# Altium schematic symbol library cat.SchLib: 117 symbols (part 2 of 4)
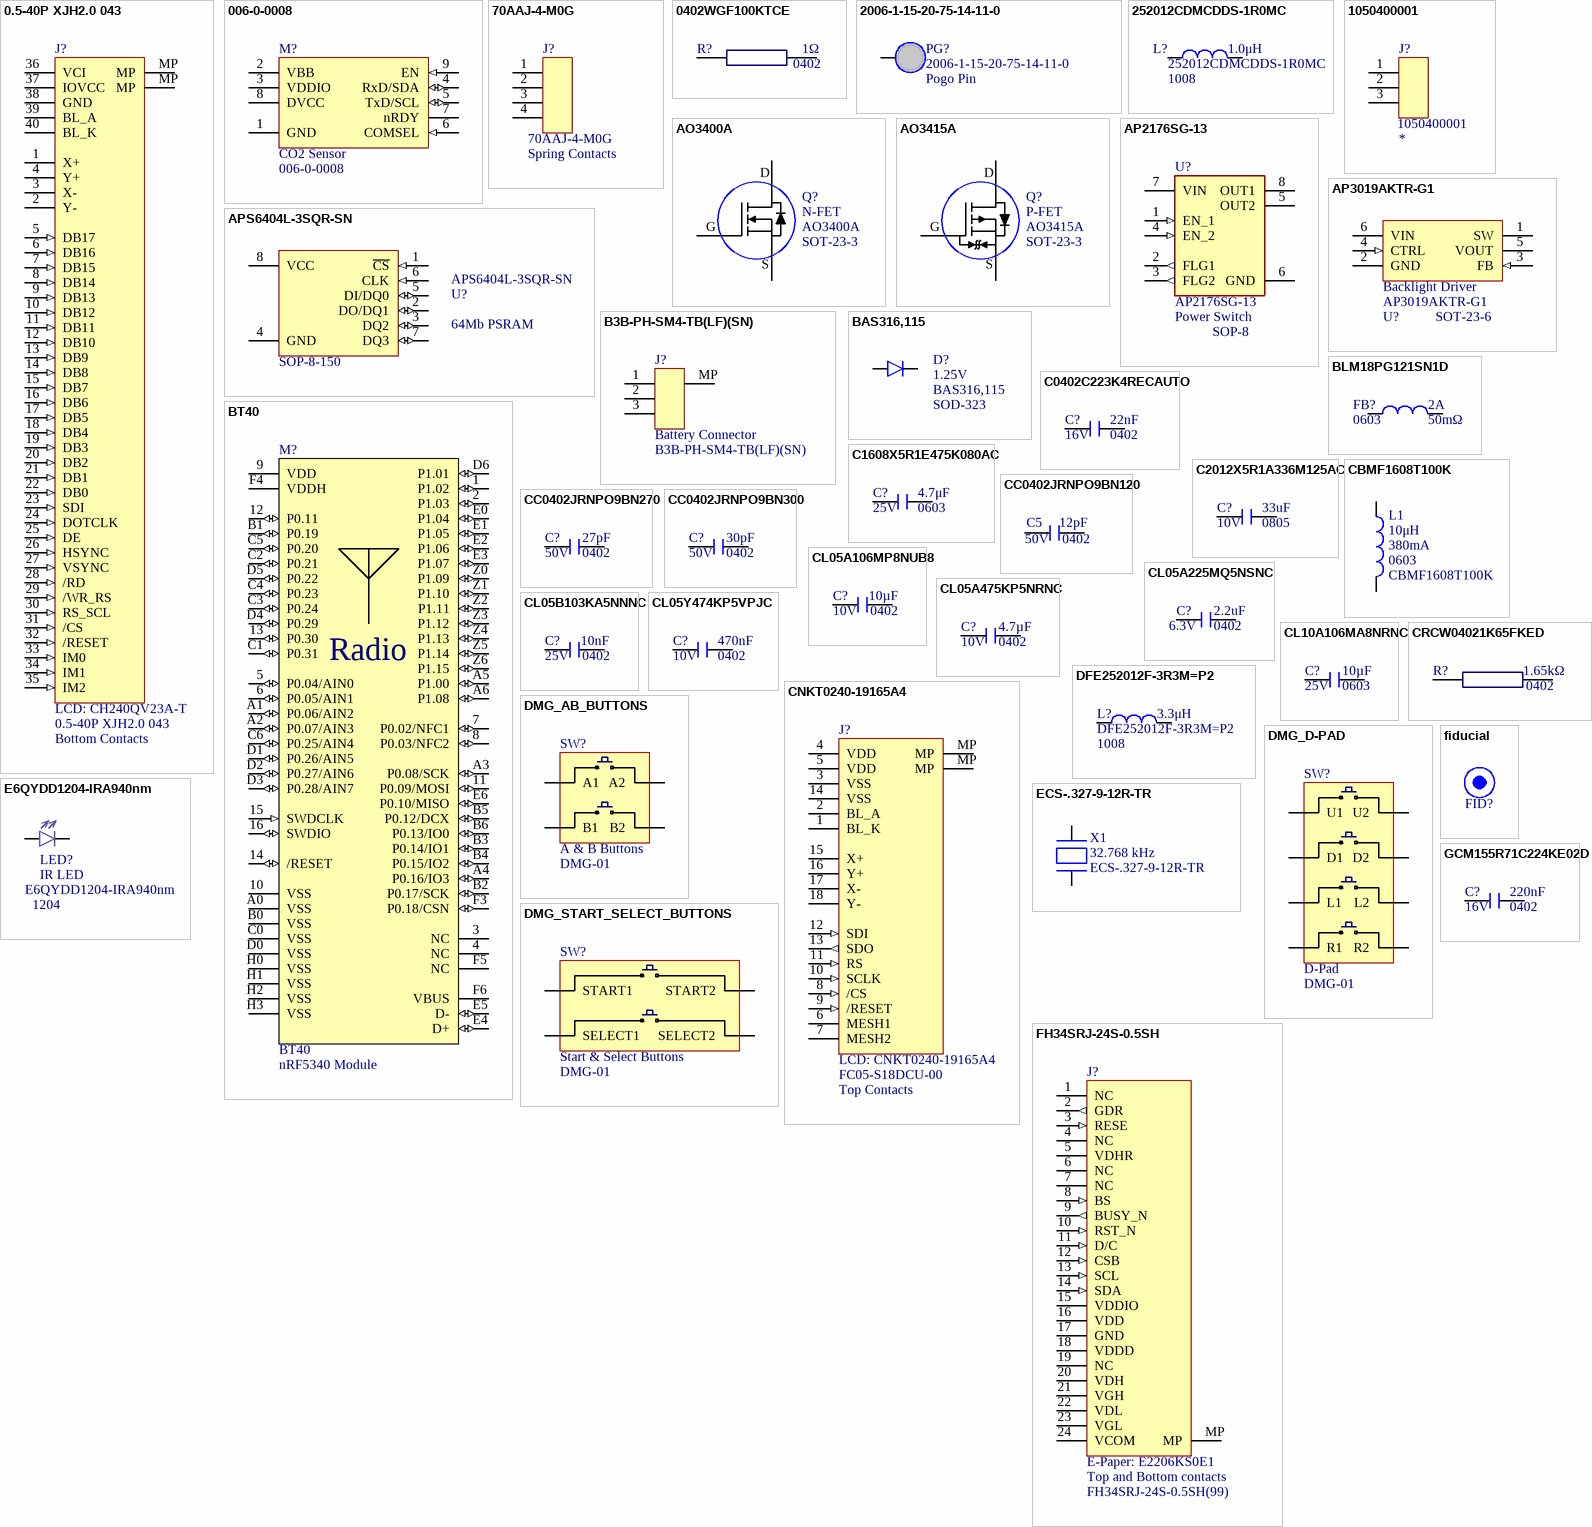
[diagram p3: symbols 0.5-40P XJH2.0 043 to GCM155R71C224KE02D]

## CRCW04021K65FKED
designator R?  value 1.65kΩ  Case/Package: 0402  (hidden comment: CRCW04021K65FKED)
1.65kΩ, 0402 Chip resistor; Manufacturer: Vishay; house_part_number: R-1.65k-0402-1%-001; Tolerance: 1%; Temperature Coefficient: 100ppm/°C; Max Power Dissipation: 63mW; Voltage Rating: 50V; Supplier 1: Mouser; Supplier Part Number 1: 71-CRCW0402-1.65K-E3; Manufacturer Part Number: CRCW04021K65FKED; RoHS: Yes; Category: Chip SMD Resistors; Stock: 17546; Pricing: 1=0.1, 10=0.019, 50=0.019, 100=0.009, 1000=0.006, 10000=0.004 (USD); Weight: 2.3E-05oz; Case Code (Metric): 1005; Case Code (Imperial): 0402; Contact Plating: Tin; Min Operating Temperature: -55°C; Max Operating Temperature: 155°C; Package Quantity: 10; Packaging: Tape and Reel; Number of Terminations: 2; Features: Automotive AEC-Q200; Series: CRCW; Power Rating: 63mW; Resistor Type: Thick Film; Termination: SMD/SMT; Voltage Rating (DC): 50V; Resistance Tolerance: 1%; Length: 0.039inch; Width: 0.02inch; Height: 0.016inch; Radiation Hardening: No; RoHS Compliant: Yes; Lead Free: Lead Free; Reach SVHC Compliant: Unknown; ComponentLink1URL: https://datasheet.ciiva.com/22871/70201119-22871702.pdf?src-supplier=Allied+Electronics; ComponentLink1Description: https://datasheet.ciiva.com/22871/70201119-22871702.pdf?src-supplier=Allied+Electronics; ComponentLink2URL: https://datasheet.ciiva.com/22700/1697337-22700683.pdf?src-supplier=Element14; ComponentLink2Description: https://datasheet.ciiva.com/22700/1697337-22700683.pdf?src-supplier=Element14; ComponentLink3URL: https://datasheet.ciiva.com/7670/1697337-7670157.pdf?src-supplier=Element14; ComponentLink3Description: https://datasheet.ciiva.com/7670/1697337-7670157.pdf?src-supplier=Element14; ComponentLink4URL: https://datasheet.ciiva.com/7670/1697337-7670158.pdf?src-supplier=Element14; ComponentLink4Description: https://datasheet.ciiva.com/7670/1697337-7670158.pdf?src-supplier=Element14; ComponentLink5URL: https://datasheet.ciiva.com/2464/dcrcwe3-2464480.pdf?src-supplier=Digikey; ComponentLink5Description: https://datasheet.ciiva.com/2464/dcrcwe3-2464480.pdf?src-supplier=Digikey; ComponentLink6URL: https://datasheet.ciiva.com/2464/dcrcwe3-2464481.pdf?src-supplier=Digikey; ComponentLink6Description: https://datasheet.ciiva.com/2464/dcrcwe3-2464481.pdf?src-supplier=Digikey; ComponentLink7URL: https://datasheet.ciiva.com/2464/dcrcwe3-2464482.pdf?src-supplier=Digikey; ComponentLink7Description: https://datasheet.ciiva.com/2464/dcrcwe3-2464482.pdf?src-supplier=Digikey; ComponentLink8URL: https://datasheet.ciiva.com/7743/125364-7743496.pdf?src-supplier=Element14; ComponentLink8Description: https://datasheet.ciiva.com/7743/125364-7743496.pdf?src-supplier=Element14
footprint 0402_resistor (Chip Resistor, 2-Leads, Body 1.00x0.50mm, IPC Medium Density)
pins: 1, 2

## DFE252012F-3R3M=P2
designator L?  value 3.3μH  Case Code (Imperial): 1008  (hidden comment: DFE252012F-3R3M=P2)
3.3 μH, 1.8 A, 1008 Inductor; Manufacturer: Murata; house_part_number: L-3.3uH-1008-002; Core Material: Ferrite; Current Rating: 1.8A; Saturation Current: 2.8A; Shielding: Shielded; DC Resistance (DCR): 135mR; Test Frequency: 1MHz; Tolerance: 20%; Supplier Part Number 1: DFE252012F-3R3M=P2; RoHS: Yes; Category: Fixed Inductors; Stock: 8; Pricing: 1=0.1101 (USD); Mounting Technology: Surface Mount; Case/Package: 1008; Case Code (Metric): 2520; Min Operating Temperature: -40°C; Max Operating Temperature: 125°C; Packaging: Cut Tape; Series: DFE252012F; Length: 0.098inch; Width: 0.079inch; Height - Seated (Max): 0.047inch; RoHS Compliant: Yes; ComponentLink1URL: http://www.murata.com/~/media/webrenewal/products/inductor/chip/tokoproducts/wirewoundmetalalloychiptype/m_dfe252012f.ashx?src-supplier=Digikey; ComponentLink1Description: http://www.murata.com/~/media/webrenewal/products/inductor/chip/tokoproducts/wirewoundmetalalloychiptype/m_dfe252012f.ashx?src-supplier=Digikey; ComponentLink2URL: https://www.murata.com/~/media/webrenewal/products/inductor/chip/tokoproducts/wirewoundmetalalloychiptype/m_dfe252012f.ashx?src-supplier=Digikey; ComponentLink2Description: https://www.murata.com/~/media/webrenewal/products/inductor/chip/tokoproducts/wirewoundmetalalloychiptype/m_dfe252012f.ashx?src-supplier=Digikey; ComponentLink3URL: https://datasheet.octopart.com/DFE252012F-3R3M%3DP2-Murata-datasheet-150009032.pdf?src-supplier=Arrow.cn; ComponentLink3Description: https://datasheet.octopart.com/DFE252012F-3R3M%3DP2-Murata-datasheet-150009032.pdf?src-supplier=Arrow.cn; Supplier 1: Arrow Electronics; Manufacturer Part Number: DFE252012F-3R3M=P2
footprint INDC2520X12N (Chip Inductor, 2-Leads, Body 2.50x2.00mm, IPC Medium Density)
pins: 1, 2

## DMG_AB_BUTTONS
designator SW?, comment A & B Buttons  Console: DMG-01
A & B buttons for gameboy DMG
footprint DMG_AB_BUTTONS (A and B buttons for the gameboy GMG)
pins: A1, A2, B1, B2

## DMG_D-PAD
designator SW?, comment D-Pad  Console: DMG-01
D-Pad for gameboy DMG
footprint DMG_D-pad (D-pad for gameboy DMG buttons)
pins: D1, D2, L1, L2, R1, R2, U1, U2

## DMG_START_SELECT_BUTTONS
designator SW?, comment Start & Select Buttons  Console: DMG-01
Start and Select buttons for gameboy DMG
footprint DMG_START_SELECT_BUTTONS (Start and Select buttons for the gameboy DMG)
pins: SELECT1, SELECT2, START1, START2

## E6QYDD1204-IRA940nm
designator LED?, comment IR LED  Case/Package: 1204  Manufacturer Part Number: E6QYDD1204-IRA940nm
Infrared LED, 940nm, 1204, side view; Manufacturer: EKINGLUX; Supplier 1: LCSC; Supplier Part Number 1: C396649
footprint LED1204_SIDE
pins: A, A, K, K

## ECS-.327-9-12R-TR
designator X1  Frequency: 32.768 kHz  (hidden comment: ECS-.327-9-12R-TR)
32.768 kHz 9 pF crystal; Manufacturer: ECS International; Supplier 1: Digi-Key; RoHS: No; Stock 1: 5487; Pricing 1: 1=0.74000, 10=0.61300, 50=0.55200, 100=0.49060, 500=0.46608, 1000=0.39248 (USD); Supplier Part Number 1: XC2745CT-ND; house_part_number: ECS-.327-9-12R; Manufacturer Part Number: ECS-.327-9-12R-TR
footprint ECX-12R (2.0 × 1.2 × 0.6 mm Crystal)
pins: 1, 2

## FH34SRJ-24S-0.5SH
designator J?, comment E-Paper: E2206KS0E1  contact_side: Top and Bottom contacts  Manufacturer Part Number: FH34SRJ-24S-0.5SH(99)
24-Pin FPC Connector, 0.5mm pitch for E2206KS0E1 E-Paper display; Manufacturer: Hirose; Actuator Material: Nylon,Polyamide; Actuator Color: Black; Number of Positions: 24; Voltage Rating: 50V; Mating Cycles: 20; Supplier: Future Electronics; Supplier Part Number: 2094306; RoHS: Yes; Category: FFC / FPC; Stock: 500; Pricing: 500=1.61, 1000=1.59, 1500=1.56 (USD); Mounting Technology: Surface Mount; Pins: 24; Contact Material: Bronze; Contact Plating: Gold; Housing Material: Polymer; Housing Color: Grey; Min Operating Temperature: -55°C; Max Operating Temperature: 85°C; Packaging: Cut Tape; Termination: Solder; Series: FH34SRJ; Flammability Rating: UL94 V-0; RoHS Compliant: Yes; ComponentLink1URL: https://www.hirose.com/product/en/download_file/key_name/FH34SRJ/category/Catalog/doc_file_id/31646/?file_category_id=4&item_id=27&is_series=1&src-supplier=Digikey; ComponentLink1Description: https://www.hirose.com/product/en/download_file/key_name/FH34SRJ/category/Catalog/doc_file_id/31646/?file_category_id=4&item_id=27&is_series=1&src-supplier=Digikey; Supplier 1: Digikey; Supplier Part Number 1: H124725CT-ND
footprint E2206KS0E1
pins: 1 NC "Not connected", 2 GDR (out) "N-channel MOSFET gate drive", 3 RESE (in) "Current sense input", 4 NC "Not connected", 5 VDHR (power) "Positive source driving voltage. Must be decoupled to GND.", 6 NC "Not connected", 7 NC "Not connected", 8 BS (in) "Interface select. Connect to GND.", 9 BUSY_N (out) "Busy, active low. Module must not be talked to while asserted.", 10 RST_N (in) "Reset, active low", 11 D/C (in) "Data/Command", 12 CSB (in) "SPI nCS", 13 SCL (in) "SPI SCK", 14 SDA (in) "SPI MOSI", 15 VDDIO (power) "Logic supply rail", 16 VDD (power) "Main supply rail", 17 GND (power) "Ground", 18 VDDD (power) "Internal voltage regulator output. Must be decoupled to GND.", 19 NC "Not connected", 20 VDH (power) "Positive source driving voltage. Must be decoupled to GND.", 21 VGH (power) "Positive gate driving voltage. Must be decoupled to GND.", 22 VDL (power) "Negative source driving voltage. Must be decoupled to GND.", 23 VGL (power) "Negative gate driving voltage. Must be decoupled to GND.", 24 VCOM (power) "VCOM driving voltage. Must be decoupled to GND.", MP "Mounting Pad"

## fiducial
designator FID?  (value not drawn)  (no BOM)
0.5mm diameter round fiducial; house_part_number: Disc-0.5
footprint fiducial-0.5

## GCM155R71C224KE02D
designator C?  value 220nF  Voltage Rating: 16V  Case/Package: 0402  (hidden comment: GCM155R71C224KE02D)
220 nF, 16 V, X7R, 0402 Chip capacitor; Manufacturer: Murata; Material: Ceramic; Tolerance: 10%; Supplier: Future Electronics; Supplier Part Number: 7050660; Manufacturer Part Number: GCM155R71C224KE02D; RoHS: Yes; Category: Ceramic Capacitors; Stock: 80000; Pricing: 10000=0.0082, 30000=0.0079, 50000=0.0078, 150000=0.0076, 250000=0.0074 (USD); Mounting Technology: Surface Mount; Case Code (Metric): 1005; Case Code (Imperial): 0402; Weight: 0.000212oz; Min Operating Temperature: -55°C; Max Operating Temperature: 125°C; Packaging: Tape and Reel; Dielectric: X7R; Termination: SMD/SMT; Voltage Rating (DC): 16V; Package Quantity: 10000; Series: GCM; Length: 0.039inch; Width: 0.02inch; Height: 0.5mm; Thickness: 0.022inch; Ratings: AEC-Q200; Lead Free: Lead Free; RoHS Compliant: Yes; ComponentLink1URL: http://www.mouser.com/ds/2/281/c03e-806517.pdf?src-supplier=Mouser; ComponentLink1Description: http://www.mouser.com/ds/2/281/c03e-806517.pdf?src-supplier=Mouser; ComponentLink2URL: http://search.murata.co.jp/Ceramy/image/img/A01X/partnumbering_e_02.pdf?src-supplier=Digikey; ComponentLink2Description: http://search.murata.co.jp/Ceramy/image/img/A01X/partnumbering_e_02.pdf?src-supplier=Digikey; ComponentLink3URL: https://datasheet.octopart.com/GCM155R71C224KE02D-Murata-datasheet-32042419.pdf?src-supplier=Future+Electronics; ComponentLink3Description: https://datasheet.octopart.com/GCM155R71C224KE02D-Murata-datasheet-32042419.pdf?src-supplier=Future+Electronics; ComponentLink4URL: https://datasheet.octopart.com/GCM155R71C224KE02D-Murata-datasheet-149522429.pdf?src-supplier=Newark; ComponentLink4Description: https://datasheet.octopart.com/GCM155R71C224KE02D-Murata-datasheet-149522429.pdf?src-supplier=Newark; ComponentLink5URL: https://datasheet.octopart.com/GCM155R71C224KE02D-Murata-datasheet-12511495.pdf?src-supplier=TME; ComponentLink5Description: https://datasheet.octopart.com/GCM155R71C224KE02D-Murata-datasheet-12511495.pdf?src-supplier=TME
footprint 0402_capacitor (0402 chip capacitor)
pins: 1, 2

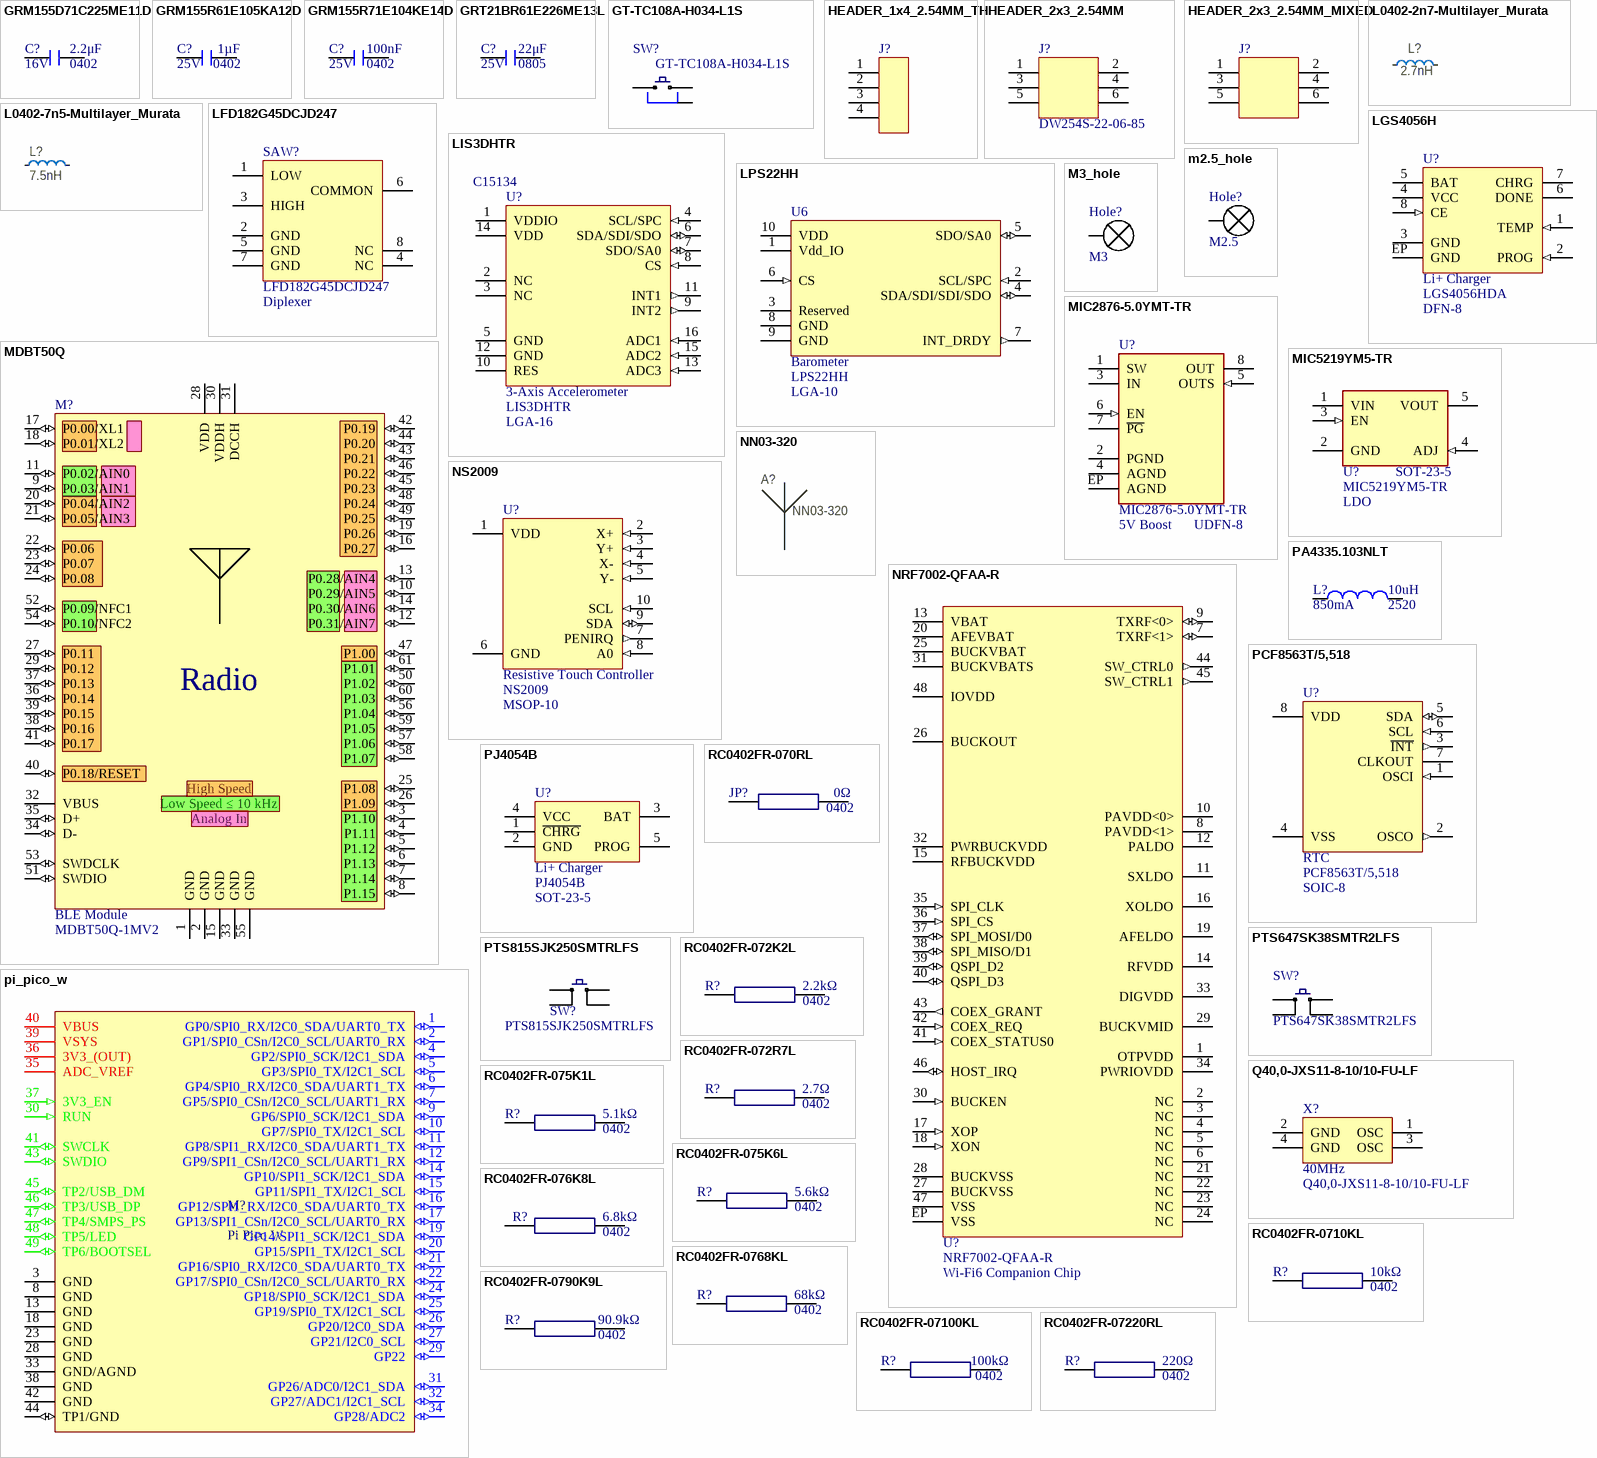
[diagram p1: symbols GRM155D71C225ME11D to RC0402FR-07220RL]

## GRM155D71C225ME11D
designator C?  value 2.2μF  Voltage Rating: 16V  Case/Package: 0402  (hidden comment: GRM155D71C225ME11D)
2.2 µF, 16 V, X7T, 0402 Chip capacitor; Manufacturer: Murata; Material: Ceramic; Tolerance: 20%; Supplier: Future Electronics; Supplier Part Number: 9135167; Manufacturer Part Number: GRM155D71C225ME11D; RoHS: Yes; Category: Ceramic Capacitors; Stock: 10000; Pricing: 10000=0.0274, 20000=0.027, 30000=0.0267, 40000=0.0266, 50000=0.026 (USD); Min Operating Temperature: -55°C; Max Operating Temperature: 125°C; Dielectric: X7T; Voltage Rating (DC): 16V; Length: 1mm; Width: 500um; Height: 650um; Thickness: 500um; RoHS Compliant: Yes; ComponentLink1URL: https://datasheet.octopart.com/GRM155D71C225ME11D-Murata-datasheet-165579666.pdf?src-supplier=TME; ComponentLink1Description: https://datasheet.octopart.com/GRM155D71C225ME11D-Murata-datasheet-165579666.pdf?src-supplier=TME
footprint 0402_capacitor (0402 chip capacitor)
pins: 1, 2

## GRM155R61E105KA12D
designator C?  Size Code: 0402  Capacitance: 1µF  Voltage: 25V  (hidden comment: GRM155R61E105KA12D)
1 µF, 25 V, X5R, 0402 Chip capacitor; Manufacturer: Murata; house_part_number: C-1uF-0402-002; Dielectric Material: Ceramic; Multilayer: Yes; Negative Tolerance: 10%; Supplier 1: Digi-Key; Supplier Part Number 1: 490-10017-1-ND; RoHS: Yes; Category: Ceramic Capacitors; Stock 1: 145965; Pricing 1: 1=0.11000, 10=0.08300, 50=0.04560, 100=0.03720, 500=0.02656, 1000=0.02087, 2500=0.01898, 5000=0.01746 (USD); Mount: Surface Mount; Number of Pins: 2; Package Shape: Rectangular; Terminal Finish: Nickel; Min Operating Temperature: -55°C; Max Operating Temperature: 85°C; JESD-609 Code: e3; Capacitor Type: Ceramic; Package Style: SMTMeter; Packaging: Tape and Reel; Positive Tolerance: 10%; Temperature Characteristics Code: X5R; Termination: Wraparound; Length: 1mm; Width: 0.5mm; Height: 0.5mm; REACH SVHC: Yes; RoHS Compliant: Yes; ComponentLink1URL: https://datasheet.ciiva.com:443/pdfs/VipMasterIC/IC/MURE/MURE-S-A0004362469/MURE-S-A0004364524-1.pdf?src-supplier=IHS+Markit; ComponentLink1Description: https://datasheet.ciiva.com:443/pdfs/VipMasterIC/IC/MURE/MURE-S-A0004362469/MURE-S-A0004364524-1.pdf?src-supplier=IHS+Markit; ComponentLink2URL: https://datasheet.ciiva.com/7719/1666664-7719006.pdf?src-supplier=Element14; ComponentLink2Description: https://datasheet.ciiva.com/7719/1666664-7719006.pdf?src-supplier=Element14; ComponentLink3URL: https://datasheet.ciiva.com/22732/1666664-22732122.pdf?src-supplier=Element14; ComponentLink3Description: https://datasheet.ciiva.com/22732/1666664-22732122.pdf?src-supplier=Element14; Manufacturer Part Number: GRM155R61E105KA12D
footprint 0402_capacitor (0402 chip capacitor)
pins: 1, 2

## GRM155R71E104KE14D
designator C?  Case Code (Imperial): 0402  Voltage: 25V  Capacitance: 100nF  (hidden comment: GRM155R71E104KE14D)
100 nF, 25 V, X7R, 0402 Chip capacitor; Manufacturer: Murata; house_part_number: C-100nF-0402-002; Dielectric Material: Ceramic; Tolerance: 10%; Supplier 1: Digi-Key; Supplier Part Number 1: 490-10698-1-ND; RoHS: Yes; Category: Ceramic Capacitors; Pricing 1: 1=0.10000, 10=0.02700, 50=0.01460, 100=0.01190, 500=0.00848, 1000=0.00666, 2500=0.00605, 5000=0.00557 (USD); Mount: Surface Mount; Case/Package: 0402; Case Code (Metric): 1005; Weight: 0.000212oz; Min Operating Temperature: -55°C; Max Operating Temperature: 125°C; Packaging: Tape and Reel; Voltage Rating: 25V; Dielectric: X7R; Termination: SMD/SMT; Resistor Type: Ceramic; Voltage Rating (DC): 25V; Package Quantity: 10000; Length: 1mm; Width: 0.02inch; Height: 0.5mm; Thickness: 0.022inch; Depth: 0.5mm; REACH SVHC: Unknown; Lead Free: Lead Free; RoHS Compliant: Yes; ComponentLink1URL: http://www.farnell.com/datasheets/1872206.pdf?src-supplier=Farnell; ComponentLink1Description: http://www.farnell.com/datasheets/1872206.pdf?src-supplier=Farnell; ComponentLink2URL: http://components.arrow.com/part/dataview/0323_06361249?src-supplier=Arrow+Europe; ComponentLink2Description: http://components.arrow.com/part/dataview/0323_06361249?src-supplier=Arrow+Europe; ComponentLink3URL: http://uk.rs-online.com/webdocs/144c/0900766b8144c113.pdf?src-supplier=RSComponents; ComponentLink3Description: http://uk.rs-online.com/webdocs/144c/0900766b8144c113.pdf?src-supplier=RSComponents; ComponentLink4URL: http://www.farnell.com/datasheets/2048008.pdf?src-supplier=Farnell; ComponentLink4Description: http://www.farnell.com/datasheets/2048008.pdf?src-supplier=Farnell; ComponentLink5URL: http://www.mouser.com/ds/2/281/c02e-2905.pdf?src-supplier=Mouser; ComponentLink5Description: http://www.mouser.com/ds/2/281/c02e-2905.pdf?src-supplier=Mouser; ComponentLink6URL: http://www.farnell.com/datasheets/2048008.pdf?src-supplier=Newark; ComponentLink6Description: http://www.farnell.com/datasheets/2048008.pdf?src-supplier=Newark; ComponentLink7URL: https://search.murata.co.jp/Ceramy/image/img/A01X/G101/ENG/GRM155R71E104KE14-01.pdf?src-supplier=Digi-Key; ComponentLink7Description: https://search.murata.co.jp/Ceramy/image/img/A01X/G101/ENG/GRM155R71E104KE14-01.pdf?src-supplier=Digi-Key; ComponentLink8URL: http://www.farnell.com/datasheets/2048008.pdf?src-supplier=Element14; ComponentLink8Description: http://www.farnell.com/datasheets/2048008.pdf?src-supplier=Element14; ComponentLink9URL: http://psearch.en.murata.com/capacitor/product/GRM155R71E104KE14%23.pdf?src-supplier=Avnet; ComponentLink9Description: http://psearch.en.murata.com/capacitor/product/GRM155R71E104KE14%23.pdf?src-supplier=Avnet; Manufacturer Part Number: GRM155R71E104KE14D
footprint 0402_capacitor (0402 chip capacitor)
pins: 1, 2

## GRT21BR61E226ME13L
designator C?  value 22μF  Rated DC Voltage (URdc): 25V  Case/Package: 0805  (hidden comment: *)
22 μF, 25 V, X5R, 0805 Chip capacitor; Manufacturer: Murata; Manufacturer Part Number: GRT21BR61E226ME13L; Dielectric Material: Ceramic; Multilayer: Yes; Tolerance  (fill in as +-): 20%; Reference Standard: AEC-Q200; Supplier 1: Digi-Key; RoHS: Yes; Category: Ceramic Capacitors; Stock 1: 1983731; Pricing 1: 1=0.48, 10=0.338, 50=0.2558, 100=0.2228, 500=0.16508, 1000=0.14031 (USD); Mounting Technology: Surface Mount; Pins: 2; Package Shape: Rectangular; Terminal Finish: Nickel; Min Operating Temperature: -55°C; Max Operating Temperature: 85°C; JESD-609 Code: e3; Capacitor Type: Ceramic; Packaging: Tape and Reel; Tolerance (fill in as +-): 20%; Temperature Characteristics Code: X5R; Termination: Wraparound; Reach SVHC Compliant: Yes; RoHS Compliant: Yes; ComponentLink1URL: https://datasheet.ciiva.com:443/pdfs/VipMasterIC/IC/MURE/MURE-S-A0004410517/MURE-S-A0004413512-1.pdf?src-supplier=IHS+Markit; ComponentLink1Description: https://datasheet.ciiva.com:443/pdfs/VipMasterIC/IC/MURE/MURE-S-A0004410517/MURE-S-A0004413512-1.pdf?src-supplier=IHS+Markit; ComponentLink2URL: http://search.murata.co.jp/Ceramy/image/img/A01X/G101/ENG/GRT21BR61E226ME13-01.pdf?src-supplier=Digi-Key; ComponentLink2Description: http://search.murata.co.jp/Ceramy/image/img/A01X/G101/ENG/GRT21BR61E226ME13-01.pdf?src-supplier=Digi-Key; Supplier Part Number 1: 490-12389-1-ND
footprint 0805_capacitor (Chip Capacitor, 2-Leads, Body 2.00x1.25mm, IPC Medium Density)
pins: 1, 2

## GT-TC108A-H034-L1S
designator SW?
GT-TC108A-H034-L1S; Manufacturer: G-Switch; Supplier: LCSC; Supplier Part Number: C22396279; RoHS: No; Stock: 21128; Pricing: 5=0.1075, 50=0.0865, 150=0.0761, 500=0.0682, 2000=0.0619, 4000=0.0587 (USD); Manufacturer Part Number: GT-TC108A-H034-L1S
footprint SKRTLA
pins: A, B, MP (power)

## HEADER_1x4_2.54MM_TH
designator J?  (value not drawn)
footprint HEADER_1X4P_2.54MM_TH
pins: 1, 2, 3, 4

## HEADER_2x3_2.54MM
designator J?  Manufacturer Part Number: DW254S-22-06-85  (hidden comment: HEADER_2x3_2.54MM)
0.1" socket, 3x2, SMD; house_part_number: DW254S-22-06-85
footprint HEADER_2X3P_2.54MM
pins: 1, 2, 3, 4, 5, 6

## HEADER_2x3_2.54MM_MIXED
designator J?, comment HEADER_2x3_2.54MM  (value not drawn)
0.1" socket, 3x2, SMD; house_part_number: SAO; Manufacturer Part Number: SAO Header
footprint HEADER_2X3P_2.54MM - TH
pins: 1, 2, 3, 4, 5, 6

## L0402-2n7-Multilayer_Murata
designator L?, comment 2.7nH
Inductor, 800mA, ±2%, 120mΩ; Part Number: L0402-2n7-Multilayer_Murata; Manufacturer: Murata; Manufacturer Part Number: LQG15HS2N7B02D; Part number NEMS: 100300445; Component Status: Active; Pad Count: 2; Note: -55°C ~ 125°C; Artikkelnr Noca: N.A.; Component Class: Inductors; Author: hany; ComponentLink1URL: https://search.murata.co.jp/Ceramy/image/img/P02/JELF243B-0010.pdf; ComponentLink1Description: Datasheet; ComponentLink2URL: N.A.; ComponentLink2Description: Supplier link; HelpURL: https://search.murata.co.jp/Ceramy/image/img/P02/JELF243B-0010.pdf; LatestRevisionDate: 2023-06-06; Published: 2023-06-06; Footprint Doc: 0402; Value: 2.7nH; Supplier 1: Digi-Key; Supplier Part Number 1: 490-LQG15HS2N7B02DTR-ND; Supplier 2: Mouser; Supplier Part Number 2: 81-LQG15HS2N7B02D; Part number IPS: N.A.; Part number Norautron: N.A.; PartId: 100300445
footprint INDC1005X04L
pins: 1, 2

## L0402-7n5-Multilayer_Murata
designator L?, comment 7.5nH
Inductor, 550mA, ±2%, 240mΩ; Part Number: L0402-7n5-Multilayer_Murata; Manufacturer: Murata; Manufacturer Part Number: LQG15HS7N5G02D; Part number NEMS: 100300446; Component Status: Active; Pad Count: 2; Note: -55°C ~ 125°C; Artikkelnr Noca: N.A.; Component Class: Inductors; Author: hany; ComponentLink1URL: https://search.murata.co.jp/Ceramy/image/img/P02/JELF243B-0010.pdf; ComponentLink1Description: Datasheet; ComponentLink2URL: N.A.; ComponentLink2Description: Supplier link; HelpURL: https://search.murata.co.jp/Ceramy/image/img/P02/JELF243B-0010.pdf; LatestRevisionDate: 2023-06-06; Published: 2023-06-06; Footprint Doc: 0402; Value: 7.5nH; Supplier 1: Digi-Key; Supplier Part Number 1: 490-LQG15HS7N5G02DTR-ND; Supplier 2: Mouser; Supplier Part Number 2: 81-LQG15HS7N5J02D; Part number IPS: N.A.; Part number Norautron: N.A.; PartId: 100300446
footprint INDC1005X04L
pins: 1, 2

## LFD182G45DCJD247
designator SAW?, comment Diplexer  Manufacturer Part Number: LFD182G45DCJD247
Murata Manufacturing Co., Ltd. SMD; Supplier: Mouser; Supplier Part Number: 81-LFD182G45DCJD247; Manufacturer: Murata; RoHS: No; Category: LDO; Stock: 11421; Pricing: 1=0.47, 10=0.332, 50=0.332, 100=0.308, 1000=0.217, 10000=0.192 (USD)
footprint CAF-50P160X80-6N (Chip Array, Flat, 6-Leads, Pitch 0,50mm,  Body 1,60x0,80mm,  IPC Medium Density)
pins: 1 LOW, 2 GND (power), 3 HIGH, 4 NC, 5 GND (power), 6 COMMON, 7 GND (power), 8 NC

## LGS4056H
designator U?, comment Li+ Charger  Manufacturer Part Number: LGS4056HDA  Package: DFN-8
Battery Charger, DFN-8(2x2); Case/Package: DFN-8(2x2); Supplier 1: LCSC; house_part_number: LGS4056HDA; Supplier Part Number 1: C5124109
footprint SON50P200X80_HS-9N (SON, 8-Leads, Body 2.00x2.00mm, Pitch 0.50mm, Thermal Pad 1.60x0.69mm, IPC Medium Density)
pins: 1 TEMP (in) "Temperature monitoring. Disables charging if (0.8*VCC)<Vtemp<(0.45*VCC). Ground or float if unused.", 2 PROG (in) "Current charging setting. Connect to GND via 1% resistor. For 300mA and above, Ibat=1000/Rprog. Below 300mA, Ibat=900/Rprog. 1kΩ=1A, 2kΩ= 0.5A, 3kΩ=0.33A", 3 GND (power) "Ground", 4 VCC (power) "Power input. Decouple with a closely-placed 10uF capacitor.", 5 BAT (power) "Battery charge current output. Decouple with a closely-placed 10uF capacitor.", 6 DONE (oc) "Full battery indicator. Open-drain. Connect to ground if unused.", 7 CHRG (oc) "Charging status indicator. Open-drain. Connect to ground if unused.", 8 CE (in) "Charging enable. Active high.", EP GND (power) "Exposed pad. Connect to ground."

## LIS3DHTR
designator U?, comment 3-Axis Accelerometer  Case/Package: LGA-16  Manufacturer Part Number: LIS3DHTR  Supplier Part Number 1: C15134
3-Axis accelerometer, 16-bit, I2C/SPI, LGA-16; Manufacturer: STMicroelectronics; Max Supply Voltage: 3.6V; Min Supply Voltage: 1.71V; Operating Supply Voltage: 2.5V; Bandwidth: 5kHz; Interface: I2C,SPI; Resolution: 16b; Operating Supply Current: 11uA; Sensor Type: 3 Axis; Output Type: Digital; Axis: X, Y, Z; Supplier: Avnet; Supplier Part Number: LIS3DHTR; RoHS: Yes; Category: Accelerometers; Stock: 40000; Pricing: 4000=0.94095, 8000=0.92155, 16000=0.90215 (USD); Pins: 16; Min Operating Temperature: -40°C; Max Operating Temperature: 85°C; Package Quantity: 4000; Packaging: Tape and Reel; Max Supply Voltage (DC): 3.6V; Min Supply Voltage (DC): 1.71V; Series: -; Length: 3mm; Width: 3mm; Height: 1mm; Depth: 3mm; Radiation Hardening: No; Reach SVHC Compliant: No; Lead Free: Lead Free; RoHS Compliant: Yes; ComponentLink1URL: https://datasheet.ciiva.com/7621/1718591-7621744.pdf?src-supplier=Element14; ComponentLink1Description: https://datasheet.ciiva.com/7621/1718591-7621744.pdf?src-supplier=Element14; ComponentLink2URL: https://datasheet.ciiva.com/5296/cd00274221-117431-5296513.pdf?src-supplier=Mouser; ComponentLink2Description: https://datasheet.ciiva.com/5296/cd00274221-117431-5296513.pdf?src-supplier=Mouser; ComponentLink3URL: https://datasheet.ciiva.com/2810/cd00274221-2810009.pdf?src-supplier=Digikey; ComponentLink3Description: https://datasheet.ciiva.com/2810/cd00274221-2810009.pdf?src-supplier=Digikey; ComponentLink4URL: https://datasheet.ciiva.com/2810/cd00274221-2810008.pdf?src-supplier=Digikey; ComponentLink4Description: https://datasheet.ciiva.com/2810/cd00274221-2810008.pdf?src-supplier=Digikey; ComponentLink5URL: https://datasheet.ciiva.com/2810/cd00274221-2810010.pdf?src-supplier=Digikey; ComponentLink5Description: https://datasheet.ciiva.com/2810/cd00274221-2810010.pdf?src-supplier=Digikey; ComponentLink6URL: https://datasheet.ciiva.com/48495/cd00274221-48495849.pdf?src-supplier=Avnet; ComponentLink6Description: https://datasheet.ciiva.com/48495/cd00274221-48495849.pdf?src-supplier=Avnet; ComponentLink7URL: https://datasheet.ciiva.com/3271/cd00274221-3271807.pdf?src-supplier=Avnet; ComponentLink7Description: https://datasheet.ciiva.com/3271/cd00274221-3271807.pdf?src-supplier=Avnet; ComponentLink8URL: https://datasheet.ciiva.com/16216/cd00274221-16216362.pdf?src-supplier=Future+Electronics; ComponentLink8Description: https://datasheet.ciiva.com/16216/cd00274221-16216362.pdf?src-supplier=Future+Electronics; Supplier 1: LCSC; house_part_number: LIS3DHTR
footprint LGA50P300X300X100-16N (LGA, 16-Leads, Body 3.00x3.00mm, Pitch 0.50mm, IPC Medium Density)
pins: 1 VDDIO (power), 2 NC (power), 3 NC (power), 4 SCL/SPC (in), 5 GND (power), 6 SDA/SDI/SDO (io), 7 SDO/SA0 (io), 8 CS (in), 9 INT2 (out), 10 RES (power), 11 INT1 (out), 12 GND (power), 13 ADC3 (in), 14 VDD (power), 15 ADC2 (in), 16 ADC1 (in)

## LPS22HH
designator U6, comment Barometer  Manufacturer Part Number: LPS22HH  Package: LGA-10
260-1260 hPa Absolute barometer, LGA-10; Manufacturer: STMicroelectronics; Sensor Type: PRESSURE SENSOR,PEIZORESISTIVE; Supplier 1: LCSC; RoHS: Yes; Category: Pressure Sensors; Stock 1: 7641; Pricing 1: 1=1.0244, 10=0.8712, 30=0.7877, 100=0.5824, 500=0.546, 1000=0.5304 (USD); Reach SVHC Compliant: Yes; RoHS Compliant: Yes; ComponentLink1URL: https://datasheet.ciiva.com:443/pdfs/VipMasterIC/IC/SGST/SGST-S-A0007383744/SGST-S-A0007383744-1.pdf?src-supplier=IHS+Markit; ComponentLink1Description: https://datasheet.ciiva.com:443/pdfs/VipMasterIC/IC/SGST/SGST-S-A0007383744/SGST-S-A0007383744-1.pdf?src-supplier=IHS+Markit; ComponentLink2URL: http://www.farnell.com/datasheets/2710908.pdf?src-supplier=Farnell; ComponentLink2Description: http://www.farnell.com/datasheets/2710908.pdf?src-supplier=Farnell; ComponentLink3URL: https://www.st.com/resource/en/datasheet/lps22hh.pdf?src-supplier=Digikey; ComponentLink3Description: https://www.st.com/resource/en/datasheet/lps22hh.pdf?src-supplier=Digikey; ComponentLink4URL: https://www.st.com/resource/en/data_brief/lps22hh.pdf?src-supplier=Digikey; ComponentLink4Description: https://www.st.com/resource/en/data_brief/lps22hh.pdf?src-supplier=Digikey; ComponentLink5URL: http://www.farnell.com/datasheets/2710908.pdf?src-supplier=Newark; ComponentLink5Description: http://www.farnell.com/datasheets/2710908.pdf?src-supplier=Newark; Supplier Part Number 1: C2827824
footprint LPS22 (LGA-10)
pins: 1 Vdd_IO (power) "Power supply for I/O pins", 2 SCL/SPC (in) "I²C / MIPI I3CSM serial clock (SCL) SPI serial port clock (SPC)", 3 Reserved (power) "Connect to GND", 4 SDA/SDI/SDI/SDO (io) "I²C / MIPI I3CSM serial data (SDA) 4-wire SPI serial data input (SDI) 3-wire serial data input/output (SDI/SDO)", 5 SDO/SA0 (io) "4-wire SPI serial data output (SDO) I²C least significant bit of the device address (SA0) MIPI I3CSM least significant bit of the static address (SA0)", 6 CS (in) "SPI enable I²C and MIPI I3CSM / SPI mode selection (1: SPI idle mode / I²C and MIPI I3CSM communication enabled; 0: SPI communication mode / I²C and MIPI I3CSM disabled)", 7 INT_DRDY (out) "Interrupt or Data-Ready", 8 GND (power) "0 V supply", 9 GND (power) "0 V supply", 10 VDD (power) "Power supply"

## m2.5_hole
designator Hole?, comment M2.5  (no BOM)
M2.5 clearance hole
footprint m2.5_hole (M2.5 hole, with via stitching)
pins: 1

## M3_hole
designator Hole?, comment M3  (no BOM)
M3 clearance hole
footprint m3_hole (M3 hole, with via stitching)
pins: 1

## MDBT50Q
designator M?, comment BLE Module  Manufacturer Part Number: MDBT50Q-1MV2
Supplier 1: Digi-Key; Supplier Part Number 1: 1597-1678-ND; ComponentLink1Description: Manufacturer Website; ComponentLink1URL: https://www.raytac.com/product/ins.php?index_id=24; house_part_number: MDBT50Q-1MV2
footprint MDBT50Q
pins: 1 GND (power), 2 GND (power), 3 P1.10 (io), 4 P1.11 (io), 5 P1.12 (io), 6 P1.13 (io), 7 P1.14 (io), 8 P1.15 (io), 9 P0.03/AIN1 (io), 10 P0.29/AIN5 (io), 11 P0.02/AIN0 (io), 12 P0.31/AIN7 (io), 13 P0.28/AIN4 (io), 14 P0.30/AIN6 (io), 15 GND (power), 16 P0.27 (io), 17 P0.00/XL1 (io), 18 P0.01/XL2 (io), 19 P0.26 (io), 20 P0.04/AIN2 (io), 21 P0.05/AIN3 (io), 22 P0.06 (io), 23 P0.07 (io), 24 P0.08 (io), 25 P1.08 (io), 26 P1.09 (io), 27 P0.11 (io), 28 VDD (power), 29 P0.12 (io), 30 VDDH (power), 31 DCCH (power), 32 VBUS (power), 33 GND (power), 34 D- (io), 35 D+ (io), 36 P0.14 (io), 37 P0.13 (io), 38 P0.16 (io), 39 P0.15 (io), 40 P0.18/RESET (io), 41 P0.17 (io), 42 P0.19 (io), 43 P0.21 (io), 44 P0.20 (io), 45 P0.23 (io), 46 P0.22 (io), 47 P1.00 (io), 48 P0.24 (io), 49 P0.25 (io), 50 P1.02 (io), 51 SWDIO (io), 52 P0.09/NFC1 (io), 53 SWDCLK (io), 54 P0.10/NFC2 (io), 55 GND (power), 56 P1.04 (io), 57 P1.06 (io), 58 P1.07 (io), 59 P1.05 (io), 60 P1.03 (io), 61 P1.01 (io)
text: Radio; High Speed; Low Speed ≤ 10 kHz; Analog In

## MIC2876-5.0YMT-TR
designator U?, comment 5V Boost  Case/Package: UDFN-8  Manufacturer Part Number: MIC2876-5.0YMT-TR
5V Synchronous Boost, UDFN-8; Manufacturer: Microchip; Number of Outputs: 1; Min Input Voltage: 2.5V; Max Supply Voltage: 5.5V; Output Current: 3.8A; Switching Frequency: 2MHz; Synchronous Rectifier: No; Output Type: Fixed; Output Configuration: Positive; Supplier: Digikey; Supplier Part Number: 150-MIC2876-5.0YMT-TRCT-ND; RoHS: Yes; Category: Voltage Regulators - Switching; Stock: 6514; Pricing: 1=0.97, 25=0.8, 100=0.73, 5000=0.73 (USD); Mounting Technology: Surface Mount; Min Operating Temperature: -40°C; Max Operating Temperature: 125°C; Packaging: Tape and Reel; Min Output Voltage: 5V; Topology: Boost; Series: -; RoHS Compliant: Yes; ComponentLink1URL: http://www.microchip.com/mymicrochip/filehandler.aspx?ddocname=en580787&src-supplier=Digikey; ComponentLink1Description: http://www.microchip.com/mymicrochip/filehandler.aspx?ddocname=en580787&src-supplier=Digikey; ComponentLink2URL: https://datasheet.octopart.com/MIC2876-5.0YMT-TR-Microchip-datasheet-175858781.pdf?src-supplier=Electro+Sonic; ComponentLink2Description: https://datasheet.octopart.com/MIC2876-5.0YMT-TR-Microchip-datasheet-175858781.pdf?src-supplier=Electro+Sonic; ComponentLink3URL: https://datasheet.octopart.com/MIC2876-5.0YMT-TR-Microchip-datasheet-175858781.pdf?src-supplier=microchipDIRECT; ComponentLink3Description: https://datasheet.octopart.com/MIC2876-5.0YMT-TR-Microchip-datasheet-175858781.pdf?src-supplier=microchipDIRECT; ComponentLink4URL: https://datasheet.octopart.com/MIC2876-5.0YMT-TR-Microchip-datasheet-175858781.pdf?src-supplier=Master+Electronics; ComponentLink4Description: https://datasheet.octopart.com/MIC2876-5.0YMT-TR-Microchip-datasheet-175858781.pdf?src-supplier=Master+Electronics; ComponentLink5URL: https://datasheet.octopart.com/MIC2876-5.0YMT-TR-Microchip-datasheet-86810323.pdf?src-supplier=SHENGYU+ELECTRONICS; ComponentLink5Description: https://datasheet.octopart.com/MIC2876-5.0YMT-TR-Microchip-datasheet-86810323.pdf?src-supplier=SHENGYU+ELECTRONICS; ComponentLink6URL: https://datasheet.octopart.com/MIC2876-5.0YMT-TR-Microchip-datasheet-142675560.pdf?src-supplier=TME; ComponentLink6Description: https://datasheet.octopart.com/MIC2876-5.0YMT-TR-Microchip-datasheet-142675560.pdf?src-supplier=TME
footprint SON50P200X50_HS-9N (SON, 8-Leads, Body 2.00x2.00mm, Pitch 0.50mm, Thermal Pad 1.20x0.60mm, IPC Medium Density)
pins: 1 SW (power) "Supply Input", 2 PGND (power) "Ground", 3 IN (power) "Supply Input", 4 AGND (power) "Ground", 5 OUTS (in) "Adjust (Input): Feedback input. Connect to resistive voltage-divider network.", 6 EN (in) "Enable (Input): CMOS compatible control input. Logic high = enable; logic", 7 ~{PG} (oc) "Enable (Input): CMOS compatible control input. Logic high = enable; logic", 8 OUT (power) "Regulator Output.", EP AGND (power) "Ground"

## MIC5219YM5-TR
designator U?, comment LDO  Case/Package: SOT-23-5  Manufacturer Part Number: MIC5219YM5-TR
500mA Peak Output Adjustable Vout LDO; Manufacturer: Microchip; Dropout Voltage: 350mV; Max Supply Voltage: 12V; Min Input Voltage: 2.5V; Number of Outputs: 1; Polarity: Positive; Output Voltage Accuracy: 1%; Quiescent Current: 8uA; Power Supply Rejection Ratio (PSRR): 75dB; Supplier: Digikey; Supplier Part Number 1: 576-1282-1-ND; RoHS: Yes; Category: Voltage Regulators - Linear; Stock: 23891; Pricing: 1=1.81, 25=1.5, 100=1.36 (USD); Mounting Technology: Surface Mount; Pins: 5; Min Operating Temperature: -40°C; Max Operating Temperature: 125°C; Packaging: Tape and Reel; Max Output current: 500mA; Output Current: 500mA; Number of Regulators: 1; Output Type: Adjustable; Series: -; Output Configuration: Positive; Reach SVHC Compliant: No; Lead Free: Lead Free; RoHS Compliant: Yes; ComponentLink1URL: https://datasheet.ciiva.com/2050/mic5219-2050896.pdf?src-supplier=Digikey; ComponentLink1Description: https://datasheet.ciiva.com/2050/mic5219-2050896.pdf?src-supplier=Digikey; ComponentLink2URL: https://datasheet.ciiva.com/2050/mic5219-2050897.pdf?src-supplier=Digikey; ComponentLink2Description: https://datasheet.ciiva.com/2050/mic5219-2050897.pdf?src-supplier=Digikey; ComponentLink3URL: https://datasheet.ciiva.com/2050/mic5219-2050898.pdf?src-supplier=Digikey; ComponentLink3Description: https://datasheet.ciiva.com/2050/mic5219-2050898.pdf?src-supplier=Digikey; ComponentLink4URL: https://datasheet.ciiva.com/46419/683599-46419083.pdf?src-supplier=Element14; ComponentLink4Description: https://datasheet.ciiva.com/46419/683599-46419083.pdf?src-supplier=Element14
footprint SOT95P280X115-5N (SOT23, 5-Leads, Body 2.92x2.80mm, Pitch 0.95mm, IPC Medium Density)
pins: 1 VIN (power) "Supply Input", 2 GND (power) "Ground", 3 EN (in) "Enable (Input): CMOS compatible control input. Logic high = enable; logic", 4 ADJ (in) "Adjust (Input): Feedback input. Connect to resistive voltage-divider network.", 5 VOUT (power) "Regulator Output."

## NN03-320
designator A?
Dual-Band GNSS and Wi-Fi/BluetoothAntenna; Manufacturer: Ignion; Part number NEMS: 100700066; Component Status: Active; Pad Count: 4; Note: N.A.; Part Number: NN03-320; Component Class: Antennas; Author: rubr; Manufacturer Part Number: NN03-320; ComponentLink1URL: https://ignion.io/files/DS_NN03-320.pdf; ComponentLink1Description: Datasheet; ComponentLink2URL: https://ignion.io/product/duo-mxtend/; ComponentLink2Description: Supplier link; HelpURL: https://ignion.io/files/UM_NN03-320.pdf; LatestRevisionDate: 2021-12-10; Published: 2023-01-31; Footprint Doc: NN03-320; Value: NN03-320; Supplier 1: Digi-Key; Supplier Part Number 1: 2115-NN03-320CT-ND; Supplier 2: Mouser; Supplier Part Number 2: 128-NN03-320; Artikkelnr Noca: N.A.; Part number IPS: N.A.; Part number Norautron: N.A.; PartId: 100700066
footprint NN03-320
pins: 1 NC hidden, 2 GND hidden, 3 Feed2 hidden, 4 Feed1
3 alternate drawings of the same symbol

## NRF7002-QFAA-R
designator U?, comment Wi-Fi6 Companion Chip  Manufacturer Part Number: NRF7002-QFAA-R
Wi-Fi 6 Module IEEE 802.11a/b/g/n/ac/ax DSSS/CCK/HT 2.4GHz/5GHz 86Mbps 48-Pin QFN EP T/R; Manufacturer: Nordic Semiconductor; Supplier: Newark; Supplier Part Number: 70AK6756; RoHS: No; Stock: 8361; Pricing: 1=5.13, 10=4.94, 25=4.75, 50=4.56, 100=4.37, 250=4.09, 500=3.8, 1000=3.47 (USD)
footprint QFN40P600X600X60-48N (QFN, 48-Leads, Body 6.1x6.1mm (max), Pitch 0.40mm, IPC Medium Density)
pins: 1 OTPVDD (power), 2 NC "Do not connect", 3 NC "Do not connect", 4 NC "Do not connect", 5 NC "Do not connect", 6 NC "Do not connect", 7 TXRF<1> (io) "5 GHz", 8 PAVDD<1> (power), 9 TXRF<0> (io) "2.4 GHz", 10 PAVDD<0> (power), 11 SXLDO (power), 12 PALDO (power), 13 VBAT (power), 14 RFVDD (power), 15 RFBUCKVDD (power), 16 XOLDO (power), 17 XOP (in) "40 MHz crystal (or TCXO output if using an external TCXO)", 18 XON (in) "40 MHz crystal (or N.C. if using an external TCXO)", 19 AFELDO (power), 20 AFEVBAT (power), 21 NC "Do not connect", 22 NC "Do not connect", 23 NC "Do not connect", 24 NC "Do not connect", 25 BUCKVBAT (power), 26 BUCKOUT (power) "DCDC output", 27 BUCKVSS (power) "DCDC GND", 28 BUCKVSS (power) "DCDC GND", 29 BUCKVMID (power) "Voltage reference decoupling pin", 30 BUCKEN (in) "PWR IP enable pin", 31 BUCKVBATS (power), 32 PWRBUCKVDD (power), 33 DIGVDD (power), 34 PWRIOVDD (power), 35 SPI_CLK (in) "SPI Clock", 36 SPI_CS (in) "SPI Chip Select", 37 SPI_MOSI/D0 (io) "(Q)SPI data", 38 SPI_MISO/D1 (io) "(Q)SPI data", 39 QSPI_D2 (io) "QSPI data", 40 QSPI_D3 (io) "QSPI data", 41 COEX_STATUS0 (in) "Coex interface", 42 COEX_REQ (in) "Coex interface", 43 COEX_GRANT (out) "Coex interface", 44 SW_CTRL0 (out) "External switch control", 45 SW_CTRL1 (out) "External switch control", 46 HOST_IRQ (io) "Host processor interrupt request", 47 VSS (power) "Chip GND. Must be connected to global ground (VSS)", 48 IOVDD (power) "for proper device operation.", EP VSS (power) "Chip GND. Must be connected to global ground (VSS)"

## NS2009
designator U?, comment Resistive Touch Controller  Case/Package: MSOP-10  Manufacturer Part Number: NS2009
Manufacturer: NSIWAY; Supplier 1: LCSC; Supplier Part Number 1: C219024; house_part_number: NS2009
footprint TSSOP50P490X112-10N (TSSOP, 10-Leads, Body 3.00x3.00mm, Pitch 0.50mm, IPC Medium Density)
pins: 1 VDD (power) "Power Supply", 2 X+ (in) "Position Input", 3 Y+ (in) "Position Input", 4 X- (in) "Position Input", 5 Y- (in) "Position Input", 6 GND (power) "Ground", 7 PENIRQ (out) "Pen Interrupt", 8 A0 (in) "I2C Address Input", 9 SDA (io) "I2C Data", 10 SCL (in) "I2C Clock"

## PA4335.103NLT
designator L?  value 10uH  Current Rating: 850mA  Case/Package: 2520  (hidden comment: PA4335.103NLT)
Drum Core Shielded Power Inductor Wirewound Ferrite 10uH 20% 1MHz 0.85A SMD T/R; Manufacturer: Pulse; Saturation Current: 1.1A; DC Resistance (DCR): 480mR; Self Resonant Frequency: 14MHz; Supplier: Digikey; Supplier Part Number: 553-3314-1-ND; Manufacturer Part Number: PA4335.103NLT; RoHS: Yes; Category: Fixed Inductors; Stock: 13968; Pricing: 1=0.36, 10=0.309, 25=0.2832, 50=0.2572, 100=0.229, 250=0.21612, 500=0.18526, 1000=0.16467 (USD); Mounting Technology: Surface Mount; Core Material: Ferrite; Min Operating Temperature: -40°C; Max Operating Temperature: 125°C; Packaging: Cut Tape; Shielding: Shielded; Test Frequency: 1MHz; Tolerance: 20%; Series: PA4335; Length: 0.106inch; Width: 0.087inch; Height - Seated (Max): 0.047inch; RoHS Compliant: Yes; ComponentLink1URL: https://datasheet.octopart.com/PA4335.103NLT-Pulse-datasheet-151940520.pdf?src-supplier=Master+Electronics; ComponentLink1Description: https://datasheet.octopart.com/PA4335.103NLT-Pulse-datasheet-151940520.pdf?src-supplier=Master+Electronics; ComponentLink2URL: https://datasheet.octopart.com/PA4335.103NLT-Pulse-datasheet-137333241.pdf?src-supplier=Sager+Electronics; ComponentLink2Description: https://datasheet.octopart.com/PA4335.103NLT-Pulse-datasheet-137333241.pdf?src-supplier=Sager+Electronics
footprint INDC2520X12N (Chip Inductor, 2-Leads, Body 2.50x2.00mm, IPC Medium Density)
pins: 1, 2

## PCF8563T/5,518
designator U?, comment RTC  Case/Package: SOIC-8  Manufacturer Part Number: PCF8563T/5,518
Real-Time Clock, I2C, SOIC-8; Manufacturer: NXP Semiconductors; Max Supply Voltage: 5.5V; Min Supply Voltage: 1.8V; Time Format: HH:MM:SS; Supplier: Arrow Electronics; Supplier Part Number: PCF8563T/5,518; RoHS: Yes; Category: Real Time Clocks; Stock: 7500; Pricing: 2500=0.4908, 5000=0.4612, 12500=0.4404 (USD); Mounting Technology: Surface Mount; Pins: 8; Min Operating Temperature: -40°C; Max Operating Temperature: 85°C; Packaging: Tape and Reel; Interface: I2C; Logic Function: Clock; Nominal Supply Voltage: 5.5V; Package Quantity: 2500; Radiation Hardening: No; RoHS Compliant: Yes; Lead Free: Lead Free; Temperature Grade: INDUSTRIAL; ComponentLink1URL: https://datasheet.ciiva.com/1238/pcf8563-1238727.pdf?src-supplier=Digi-Key; ComponentLink1Description: https://datasheet.ciiva.com/1238/pcf8563-1238727.pdf?src-supplier=Digi-Key; ComponentLink2URL: https://datasheet.ciiva.com/1238/pcf8563-1238728.pdf?src-supplier=Digi-Key; ComponentLink2Description: https://datasheet.ciiva.com/1238/pcf8563-1238728.pdf?src-supplier=Digi-Key; ComponentLink3URL: https://datasheet.ciiva.com/1238/pcf8563-1238773.pdf?src-supplier=Digi-Key; ComponentLink3Description: https://datasheet.ciiva.com/1238/pcf8563-1238773.pdf?src-supplier=Digi-Key; ComponentLink4URL: https://datasheet.ciiva.com/8145/pcf8563-8145180.pdf?src-supplier=Avnet; ComponentLink4Description: https://datasheet.ciiva.com/8145/pcf8563-8145180.pdf?src-supplier=Avnet; ComponentLink5URL: https://datasheet.ciiva.com/16287/pcf8563-16287110.pdf?src-supplier=Future+Electronics; ComponentLink5Description: https://datasheet.ciiva.com/16287/pcf8563-16287110.pdf?src-supplier=Future+Electronics; Supplier 1: LCSC; Supplier Part Number 1: C7440; house_part_number: PCF8563T/5,518
footprint SOIC127P600X175-8N
pins: 1 OSCI (in) "Oscillator input", 2 OSCO (out) "Oscillator output", 3 ~{INT} (out) "Interrupt output (open-drain; active LOW)", 4 VSS (power) "Ground", 5 SDA (io) "Serial data input and output", 6 SCL (in) "Serial clock input", 7 CLKOUT (oc) "Clock output, open-drain", 8 VDD (power) "Supply voltage, 1.8V - 5.5V"

## pi_pico_w
designator M?, comment Pi Pico W
Manufacturer: Raspberry Pi; Manufacturer Part Number: SC0918; Supplier 1: Digi-Key; Stock 1: 0; Supplier Part Number 1: 2648-SC0918CT-ND
footprint pi_pico_w (RASPBERRY PI PICO W RP2040 BOARD)
pins: 1 GP0/SPI0_RX/I2C0_SDA/UART0_TX (io), 2 GP1/SPI0_CSn/I2C0_SCL/UART0_RX (io), 3 GND (power), 4 GP2/SPI0_SCK/I2C1_SDA (io), 5 GP3/SPI0_TX/I2C1_SCL (io), 6 GP4/SPI0_RX/I2C0_SDA/UART1_TX (io), 7 GP5/SPI0_CSn/I2C0_SCL/UART1_RX (io), 8 GND (power), 9 GP6/SPI0_SCK/I2C1_SDA (io), 10 GP7/SPI0_TX/I2C1_SCL (io), 11 GP8/SPI1_RX/I2C0_SDA/UART1_TX (io), 12 GP9/SPI1_CSn/I2C0_SCL/UART1_RX (io), 13 GND (power), 14 GP10/SPI1_SCK/I2C1_SDA (io), 15 GP11/SPI1_TX/I2C1_SCL (io), 16 GP12/SPI1_RX/I2C0_SDA/UART0_TX (io), 17 GP13/SPI1_CSn/I2C0_SCL/UART0_RX (io), 18 GND (power), 19 GP14/SPI1_SCK/I2C1_SDA (io), 20 GP15/SPI1_TX/I2C1_SCL (io), 21 GP16/SPI0_RX/I2C0_SDA/UART0_TX (io), 22 GP17/SPI0_CSn/I2C0_SCL/UART0_RX (io), 23 GND (power), 24 GP18/SPI0_SCK/I2C1_SDA (io), 25 GP19/SPI0_TX/I2C1_SCL (io), 26 GP20/I2C0_SDA (io), 27 GP21/I2C0_SCL (io), 28 GND (power), 29 GP22 (io), 30 RUN (in), 31 GP26/ADC0/I2C1_SDA (io), 32 GP27/ADC1/I2C1_SCL (io), 33 GND/AGND (power), 34 GP28/ADC2 (io), 35 ADC_VREF (power), 36 3V3_(OUT) (power), 37 3V3_EN (in), 38 GND (power), 39 VSYS (power), 40 VBUS (power), 41 SWCLK (io), 42 GND (power), 43 SWDIO (io), 44 TP1/GND (io), 45 TP2/USB_DM (io), 46 TP3/USB_DP (io), 47 TP4/SMPS_PS (io), 48 TP5/LED (io), 49 TP6/BOOTSEL (io)

## PJ4054B
designator U?, comment Li+ Charger  Case/Package: SOT-23-5  Manufacturer Part Number: PJ4054B
SOT-23-5 Battery Management ICs ROHS; Manufacturer: PJSEMI; Supplier: LCSC; Supplier Part Number: C2911335; RoHS: No; Category: Uncategorized; Stock: 17540; Pricing: 10=0.0385, 100=0.0318, 300=0.0285, 3000=0.0228, 6000=0.0208, 9000=0.0198 (USD); Supplier 1: LCSC; Supplier Part Number 1: C2911335
footprint SOT95P280X115-5N (SOT23, 5-Leads, Body 2.92x2.80mm, Pitch 0.95mm, IPC Medium Density)
pins: 1 ~{CHRG} (oc) "Output of open drain charging state. The CHRG pin is pulled to low level by an internal N-channel MOSFET during battery charging.", 2 GND (power), 3 BAT (power) "Charging current output. The pin provides charging current to the battery and adjusts the final floating charging voltage to 4.2V. A precise internal resistance voltage divider of the pin sets the floating charging voltage. In the shutdown mode, the internal resistance voltage divider is disconnected.", 4 VCC (power) "Positive input power voltage. This pin supplies power to the charger.VCC shall vary from 4.25V to 6.5V and shall be bypassed by at least one 1uF capacitor. When the VCC drops to less than 30mV of BAT pin voltage,PJ4054B enters the stop mode, and the Ibat falls below 2uA.", 5 PROG (power) "Charging current setting, charging current monitoring and stop pin. The charging current can be set by connecting a 1% precision resistor Pprog between the pin and the ground. When charging in constant current mode, the voltage of this pin is maintained at 1V. In all modes, the voltage on this pin can be used to calculate the charging current. The formula is Ibat=(Vprog/Rprog)*1000. Short connect the set resistor to the ground, and an internal 2.5uA current pulls the PROG pin to a high level. When the voltage of this pin reaches the stop threshold voltage of 1.21V, the charger enters the stop mode, the charging stops and the input power current drops to 25uA. Reconnecting the Rprog to the ground will restore the charger to normal operation."

## PTS647SK38SMTR2LFS
designator SW?
Tactile switch, SPST; Manufacturer: ITT C&K; Mechanical Life: 100000Cycles; Illumination Type: Non-Illuminated; Switch Function: Off-Mom; Actuator Type: Standard; Operating Force: 250gf; Switch Travel: 0.25mm; Ratings: IP40; Supplier 1: Digi-Key; RoHS: No; Category: Tactile Switches; Stock 1: 68566; Pricing 1: 1=0.13000, 10=0.12700, 25=0.12080, 100=0.10970, 250=0.10308, 500=0.09432, 1000=0.07897 (USD); Mount: Surface Mount; Min Operating Temperature: -20°C; Max Operating Temperature: 70°C; Throw Configuration: SPST; Packaging: Tape and Reel; Termination: Gull Wing; ComponentLink1URL: https://www.ckswitches.com/media/2567/pts647.pdf?src-supplier=Digi-Key; ComponentLink1Description: https://www.ckswitches.com/media/2567/pts647.pdf?src-supplier=Digi-Key; Supplier Part Number 1: PTS647SK38SMTR2LFSCT-ND; Manufacturer Part Number: PTS647SK38SMTR2LFS
footprint PTS647SK38SMTR2LFS
pins: 1, 2, 3, 4